# Altium footprint library SnapEDApcb.PcbLib: 1 footprints
Each footprint in its own frame and in the unit in brackets; x right, y up, seen from the top. Pads: shape width x height; smd on the part's side, far side on the other; paste and mask are expansions set on the pad; w line width, h text height; cw(c..) or ccw(c..) is an arc to the next point about the centre after c.
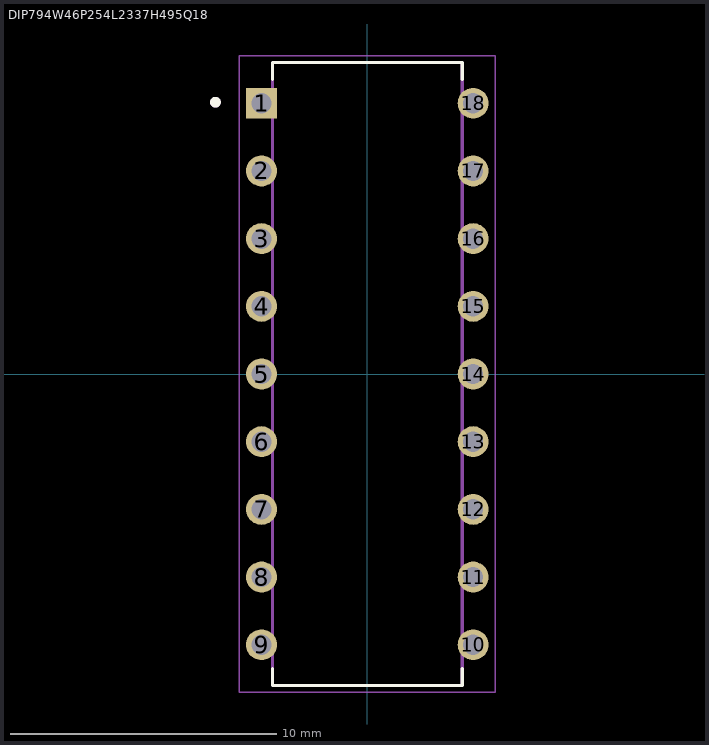
[diagram p0: the footprint, top view; thin cyan lines are the x and y axes]

## DIP794W46P254L2337H495Q18 [mm]
pads (18):
  rect 1.16x1.16 hole 0.76: 1(-3.97,10.16)
  round 1.16 hole 0.76: 2(-3.97,7.62) 3(-3.97,5.08) 4(-3.97,2.54) 5(-3.97,0) 6(-3.97,-2.54) 7(-3.97,-5.08) 8(-3.97,-7.62) 9(-3.97,-10.16) 10(3.97,-10.16) 11(3.97,-7.62) 12(3.97,-5.08) 13(3.97,-2.54) 14(3.97,0) 15(3.97,2.54) 16(3.97,5.08) 17(3.97,7.62) 18(3.97,10.16)
Top Overlay:
  circle w0.2: c-5.7,10.2 r0.1
  lines w0.127: -3.56,-11.055 -3.56,-11.69 3.56,-11.69 3.56,-11.055 ; -3.56,11.055 -3.56,11.69 3.56,11.69 3.56,11.055
Mechanical 13:
  circle w0.2: c-5.7,10.2 r0.1
  lines w0.127: -3.56,-11.69 -3.56,11.69 3.56,11.69 3.56,-11.69 -3.56,-11.69
Mechanical 15:
  lines w0.05: -4.8,-11.94 -4.8,11.94 4.8,11.94 4.8,-11.94 -4.8,-11.94